# EAGLE library part TMP007 (library texas-instruments)
Temperature Sensor Digital, Infrared (IR) -40°C ~ 125°C 14b
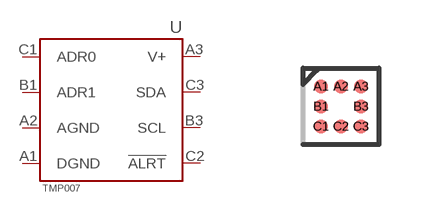
[diagram p41: symbol with the pads of DSBGA-8(UFBGA1.8X1.8); footprint DSBGA-8(UFBGA1.8X1.8)]

Designator prefix U

## TMP007 (DIGIKEY: 296-40675-1-ND; MFR: Texas Instruments; MPN: TMP007AIYZFR; P1I: o)  [DSBGA-8(UFBGA1.8X1.8)]
A1  DGND
A2  AGND
A3  V+
B1  ADR1
B3  SCL
C1  ADR0
C2  !ALRT
C3  SDA

## Footprint DSBGA-8(UFBGA1.8X1.8) (pad centres in mm)
smd 0.35 x 0.35: A1 -0.5,0.5; A2 0,0.5; A3 0.5,0.5; B1 -0.5,0; B3 0.5,0; C1 -0.5,-0.5; C2 0,-0.5; C3 0.5,-0.5